# Altium footprint library DPAK127P600X120-5N.PcbLib: 1 footprints
Each footprint in its own frame and in the unit in brackets; x right, y up, seen from the top. Pads: shape width x height; smd on the part's side, far side on the other; paste and mask are expansions set on the pad; w line width, h text height; cw(c..) or ccw(c..) is an arc to the next point about the centre after c.
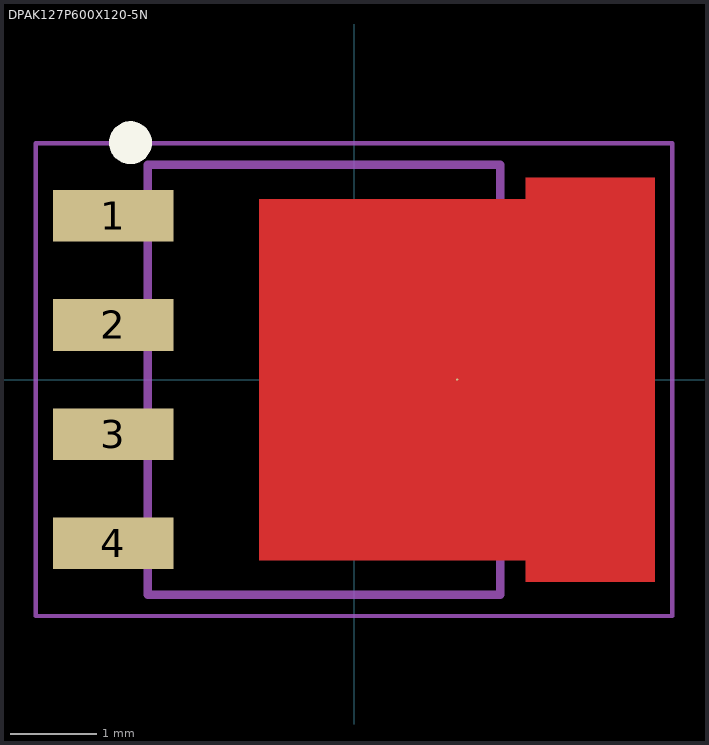
[diagram p0: the footprint, top view; thin cyan lines are the x and y axes]

## DPAK127P600X120-5N [mm] "TO, 5-Pads, Body 5.15x5.86mm (max), IPC Medium Density"
height 1.2
pads (5):
  rect 1.4x0.6 smd paste-0.05 mask+0.075: 1(-2.8,1.905) 2(-2.8,0.635) 3(-2.8,-0.635) 4(-2.8,-1.905)
  round 0.025 smd paste-2539.97 mask+0.075: 5(1.2,0)
Top Layer:
  region: -1.1,-2.1 -1.1,2.1 2,2.1 2,2.35 3.5,2.35 3.5,-2.35 2,-2.35 2,-2.1
Top Overlay:
  circle w0.25: c-2.6,2.755 r0.125
Top Paste:
  region: -0.25,1.6 -0.85,1.6 -0.85,0.7 -0.25,0.7
  region: -0.25,0.45 -0.85,0.45 -0.85,-0.45 -0.25,-0.45
  region: -0.25,-0.7 -0.85,-0.7 -0.85,-1.6 -0.25,-1.6
  rectangle: 0.85,-1.6 1.45,-0.7
  rectangle: 0.85,-0.45 1.45,0.45
  rectangle: 0.85,0.7 1.45,1.6
  rectangle: 0,-1.6 0.6,-0.7
  rectangle: 0,-0.45 0.6,0.45
  rectangle: 0,0.7 0.6,1.6
  region: 2.55,2.2 2.55,1.6 3.45,1.6 3.45,2.2
  region: 2.55,0.933 2.55,0.333 3.45,0.333 3.45,0.933
  region: 2.55,-0.333 2.55,-0.933 3.45,-0.933 3.45,-0.333
  region: 3.45,-2.2 3.45,-1.6 2.55,-1.6 2.55,-2.2
Mechanical 13:
  lines w0.1: -2.4,-2.5 -2.4,2.5 1.7,2.5 1.7,-2.5 -2.4,-2.5
Mechanical 15:
  lines w0.05: -3.7,-2.75 -3.7,2.75 3.7,2.75 3.7,-2.75 -3.7,-2.75
  lines w0.1: -0.5,0 0.5,0 ; 0,-0.5 0,0.5
3D body: height 1.2, standoff 0, extent -2.4,-2.5 1.7,2.5